# Altium schematic symbol library 2021-06-09_18-06-45.SchLib: 2 symbols
Pins are listed as number, name and electrical type; pins without a type are passive.

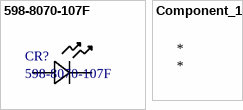
[diagram p0: symbols 598-8070-107F to Component_1]

## 598-8070-107F
designator CR?
No Description Available; Vendor: Dialight; Built_By: EMA_UL_Team; SourceLibrary: Dialight_2012-01-01_LED_598; Type: DEV; Manufacturer_Part_Number: 598-8070-107F; Copyright: Copyright (C) 2021 Accelerated Designs. All rights reserved; RefDes: RefDes
footprint LED_DIALIGHT_598_DIA
pins: 1, 2

## Component_1
designator *